# Altium schematic symbol library MDBRE09PE860.SchLib: 1 symbol
Pins are listed as number, name and electrical type; pins without a type are passive.

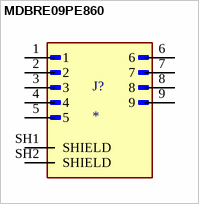
[diagram p0: symbol MDBRE09PE860]

## MDBRE09PE860
designator J?
MF: {'manufacturer': u'Amphenol Commercial Products'}; MP: MDBRE09PE860; Package: None; Price: None; Value: *; Availability: Unavailable
footprint AMPHENOL_MDBRE09PE860
pins: 1, 2, 3, 4, 5, 6, 7, 8, 9, SH1 SHIELD, SH2 SHIELD